# Altium integrated library TI Audio CODEC.IntLib: 199 symbols (part 5 of 17)
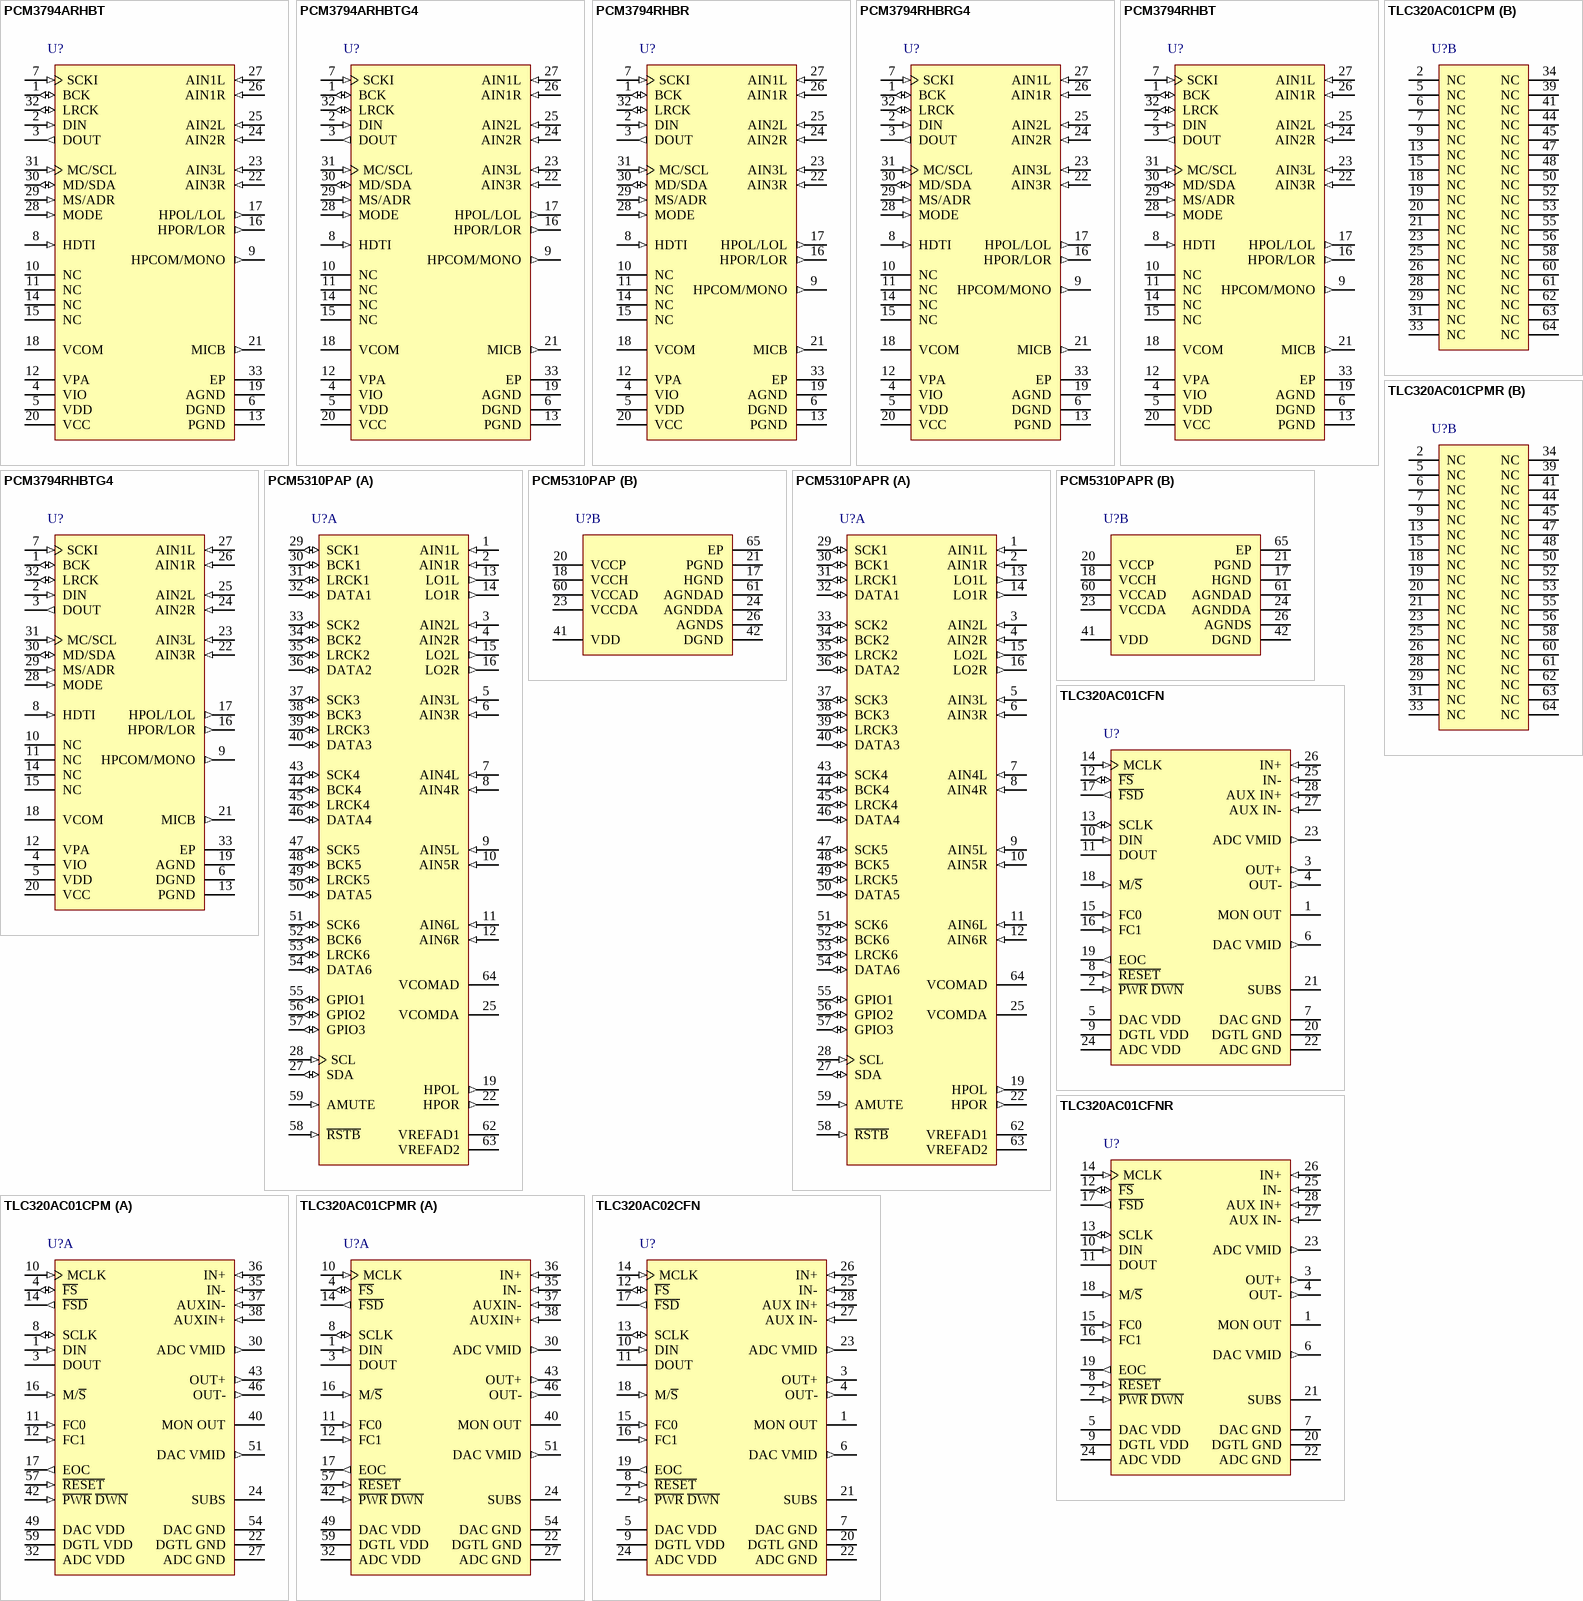
[diagram p17: symbols PCM3794ARHBT to TLC320AC02CFN]

## TLC320AC01CPM
designator U?
Single Channel CODEC-Bandwidth Independent of Sampling Rate, 0 to 70 degC, 64-pin LQFP (PM); Manufacturer: Texas Instruments; PartNumber: TLC320AC01CPM; Line Powered: TRUE; Sampling Rate (Max) (kHz): 25; DatasheetVersion: SLAS057D; PackageVersion: Dec-1996; PackageReference: PM64; PackageDescription: 64-Pin Thin Quad Flat Pack 0.5 mm Pitch; Supplier 1: Newark; Supplier Part Number 1: 76C7262; Supplier 2: Mouser; Supplier Part Number 2: 595-TLC320AC01CPM; Mounting Technology: Surface Mount; Code_JEDEC: MS-026; ComponentLink1Description: Datasheet; ComponentLink1URL: http://www.ti.com/general/docs/lit/getliterature.tsp?genericPartNumber=TLC320AC01&fileType=pdf
footprint PM64_N (Thin QFP, 64-Leads, Body 10x10mm, Pitch 0.5mm, IPC Medium Density)
footprint PM64_L (Thin QFP, 64-Leads, Body 10x10mm, Pitch 0.5mm, IPC High Density)
footprint PM64_M (Thin QFP, 64-Leads, Body 10x10mm, Pitch 0.5mm, IPC Low Density)
part A pins: 1 DIN (in) "Data input. DIN receives the DAC input data and command information and is synchronized with SCLK.", 3 DOUT (hiz) "Data output. DOUT outputs the ADC data results and register read contents. DOUT is synchronized with SCLK.", 4 ~{FS} (io) "Frame synchronization. When F\S\ goes low, DIN begins receiving data bits and DOUT begins transmitting data bits. In master mode, F\S\ is low during the simultaneous 16-bit transmission to DIN and from DOUT. In slave mode, (See Datasheet)", 8 SCLK (io) "Shift clock. SCLK clocks the digital data into DIN and out of DOUT during the frame-synchronization interval. When configured as an output (M/S high), SCLK is generated internally by dividing the master clock signal (See Datasheet)", 10 MCLK (in) "The master-clock input drives all the key logic signals of the AIC.", 11 FC0 (in) "Hardware control input. FC0 is used in conjunction with FC1 to request secondary communication and phase adjustments. FC0 should be tied low if it is not used.", 12 FC1 (in) "Hardware control input. FC1 is used in conjunction with FC0 to request secondary communication and phase adjustments. FC1 should be tied low if it is not used.", 14 ~{FSD} (out) "Frame-synchronization delayed output. This active-low output synchronizes a slave device to the frame synchronization timing of the master device. F\S\D\ is applied to the slave F\S\ input and is the same duration as the (See Datasheet)", 16 M/~{S} (in) "Master/slave select input. When M/S\ is high, the device is the master and when low, it is a slave.", 17 EOC (out) "End-of-conversion output. EOC goes high at the start of the ADC conversion period and low when conversion is complete. EOC remains low until the next ADC conversion period begins and indicates the internal device conversion (See Datasheet)", 22 DGTL GND (power) "Digital ground for control logic", 24 SUBS (power) "Substrate connection. SUBS should be tied to ADC GND.", 27 ADC GND (power) "Analog ground for the ADC channel", 30 ADC VMID (out) "Midsupply for the ADC channel (requires a bypass capacitor). ADC VMID must be buffered when used as an external reference.", 32 ADC VDD (power) "Analog supply voltage for the ADC channel", 35 IN- (in) "Inverting input to analog input amplifier", 36 IN+ (in) "Noninverting input to analog input amplifier", 37 AUXIN- (in) "Inverting input to auxiliary analog input amplifier", 38 AUXIN+ (in) "Noninverting input to auxiliary analog input amplifier", 40 MON OUT (hiz) "The monitor output allows monitoring of analog input and is a high-impedance output.", 42 ~{PWR} ~{DWN} (in) "Power-down input. When P\W\R\ D\W\N\ is taken low, the device is powered down such that the existing internally programmed state is maintained. When P\W\R\ D\W\N\ is brought high, full operation resumes.", 43 OUT+ (out) "Noninverting output of analog output power amplifier. OUT+ can drive transformer hybrids or high-impedance loads directly in a differential connection or a single-ended configuration with a buffered VMID.", 46 OUT- (out) "Inverting output of analog output power amplifier. OUT- is functionally identical with and complementary to OUT+.", 49 DAC VDD (power) "Analog supply voltage for the DAC channel", 51 DAC VMID (out) "Midsupply for the DAC channel (requires a bypass capacitor). DAC VMID must be buffered when used as an external reference.", 54 DAC GND (power) "Analog ground for the DAC channel", 57 ~{RESET} (in) "Reset input that initializes the internal counters and control registers. R\E\S\E\T\ initiates the serial data communications, initializes all of the registers to their default values, and puts the device in a preprogrammed (See Datasheet)", 59 DGTL VDD (power) "Digital supply voltage for control logic"
part B pins: 2 NC "No internal connection", 5 NC "No internal connection", 6 NC "No internal connection", 7 NC "No internal connection", 9 NC "No internal connection", 13 NC "No internal connection", 15 NC "No internal connection", 18 NC "No internal connection", 19 NC "No internal connection", 20 NC "No internal connection", 21 NC "No internal connection", 23 NC "No internal connection", 25 NC "No internal connection", 26 NC "No internal connection", 28 NC "No internal connection", 29 NC "No internal connection", 31 NC "No internal connection", 33 NC "No internal connection", 34 NC "No internal connection", 39 NC "No internal connection", 41 NC "No internal connection", 44 NC "No internal connection", 45 NC "No internal connection", 47 NC "No internal connection", 48 NC "No internal connection", 50 NC "No internal connection", 52 NC "No internal connection", 53 NC "No internal connection", 55 NC "No internal connection", 56 NC "No internal connection", 58 NC "No internal connection", 60 NC "No internal connection", 61 NC "No internal connection", 62 NC "No internal connection", 63 NC "No internal connection", 64 NC "No internal connection"

## TLC320AC01CPMR
designator U?
Single Channel CODEC-Bandwidth Independent of Sampling Rate, 0 to 70 degC, 64-pin LQFP (PM); Manufacturer: Texas Instruments; PartNumber: TLC320AC01CPMR; Line Powered: TRUE; Sampling Rate (Max) (kHz): 25; DatasheetVersion: SLAS057D; PackageVersion: Dec-1996; PackageReference: PM64; PackageDescription: 64-Pin Thin Quad Flat Pack 0.5 mm Pitch; Supplier 1: Digi-Key; Supplier Part Number 1: 296-1982-1-ND; Supplier 2: Digi-Key; Supplier Part Number 2: 296-1982-6-ND; Supplier 3: Newark; Supplier Part Number 3: 76C7263; Supplier 4: Mouser; Supplier Part Number 4: 595-TLC320AC01CPMR; Mounting Technology: Surface Mount; Code_JEDEC: MS-026; ComponentLink1Description: Datasheet; ComponentLink1URL: http://www.ti.com/general/docs/lit/getliterature.tsp?genericPartNumber=TLC320AC01&fileType=pdf
footprint PM64_N (Thin QFP, 64-Leads, Body 10x10mm, Pitch 0.5mm, IPC Medium Density)
footprint PM64_L (Thin QFP, 64-Leads, Body 10x10mm, Pitch 0.5mm, IPC High Density)
footprint PM64_M (Thin QFP, 64-Leads, Body 10x10mm, Pitch 0.5mm, IPC Low Density)
part A pins: 1 DIN (in) "Data input. DIN receives the DAC input data and command information and is synchronized with SCLK.", 3 DOUT (hiz) "Data output. DOUT outputs the ADC data results and register read contents. DOUT is synchronized with SCLK.", 4 ~{FS} (io) "Frame synchronization. When F\S\ goes low, DIN begins receiving data bits and DOUT begins transmitting data bits. In master mode, F\S\ is low during the simultaneous 16-bit transmission to DIN and from DOUT. In slave mode, (See Datasheet)", 8 SCLK (io) "Shift clock. SCLK clocks the digital data into DIN and out of DOUT during the frame-synchronization interval. When configured as an output (M/S high), SCLK is generated internally by dividing the master clock signal (See Datasheet)", 10 MCLK (in) "The master-clock input drives all the key logic signals of the AIC.", 11 FC0 (in) "Hardware control input. FC0 is used in conjunction with FC1 to request secondary communication and phase adjustments. FC0 should be tied low if it is not used.", 12 FC1 (in) "Hardware control input. FC1 is used in conjunction with FC0 to request secondary communication and phase adjustments. FC1 should be tied low if it is not used.", 14 ~{FSD} (out) "Frame-synchronization delayed output. This active-low output synchronizes a slave device to the frame synchronization timing of the master device. F\S\D\ is applied to the slave F\S\ input and is the same duration as the (See Datasheet)", 16 M/~{S} (in) "Master/slave select input. When M/S\ is high, the device is the master and when low, it is a slave.", 17 EOC (out) "End-of-conversion output. EOC goes high at the start of the ADC conversion period and low when conversion is complete. EOC remains low until the next ADC conversion period begins and indicates the internal device conversion (See Datasheet)", 22 DGTL GND (power) "Digital ground for control logic", 24 SUBS (power) "Substrate connection. SUBS should be tied to ADC GND.", 27 ADC GND (power) "Analog ground for the ADC channel", 30 ADC VMID (out) "Midsupply for the ADC channel (requires a bypass capacitor). ADC VMID must be buffered when used as an external reference.", 32 ADC VDD (power) "Analog supply voltage for the ADC channel", 35 IN- (in) "Inverting input to analog input amplifier", 36 IN+ (in) "Noninverting input to analog input amplifier", 37 AUXIN- (in) "Inverting input to auxiliary analog input amplifier", 38 AUXIN+ (in) "Noninverting input to auxiliary analog input amplifier", 40 MON OUT (hiz) "The monitor output allows monitoring of analog input and is a high-impedance output.", 42 ~{PWR} ~{DWN} (in) "Power-down input. When P\W\R\ D\W\N\ is taken low, the device is powered down such that the existing internally programmed state is maintained. When P\W\R\ D\W\N\ is brought high, full operation resumes.", 43 OUT+ (out) "Noninverting output of analog output power amplifier. OUT+ can drive transformer hybrids or high-impedance loads directly in a differential connection or a single-ended configuration with a buffered VMID.", 46 OUT- (out) "Inverting output of analog output power amplifier. OUT- is functionally identical with and complementary to OUT+.", 49 DAC VDD (power) "Analog supply voltage for the DAC channel", 51 DAC VMID (out) "Midsupply for the DAC channel (requires a bypass capacitor). DAC VMID must be buffered when used as an external reference.", 54 DAC GND (power) "Analog ground for the DAC channel", 57 ~{RESET} (in) "Reset input that initializes the internal counters and control registers. R\E\S\E\T\ initiates the serial data communications, initializes all of the registers to their default values, and puts the device in a preprogrammed (See Datasheet)", 59 DGTL VDD (power) "Digital supply voltage for control logic"
part B pins: 2 NC "No internal connection", 5 NC "No internal connection", 6 NC "No internal connection", 7 NC "No internal connection", 9 NC "No internal connection", 13 NC "No internal connection", 15 NC "No internal connection", 18 NC "No internal connection", 19 NC "No internal connection", 20 NC "No internal connection", 21 NC "No internal connection", 23 NC "No internal connection", 25 NC "No internal connection", 26 NC "No internal connection", 28 NC "No internal connection", 29 NC "No internal connection", 31 NC "No internal connection", 33 NC "No internal connection", 34 NC "No internal connection", 39 NC "No internal connection", 41 NC "No internal connection", 44 NC "No internal connection", 45 NC "No internal connection", 47 NC "No internal connection", 48 NC "No internal connection", 50 NC "No internal connection", 52 NC "No internal connection", 53 NC "No internal connection", 55 NC "No internal connection", 56 NC "No internal connection", 58 NC "No internal connection", 60 NC "No internal connection", 61 NC "No internal connection", 62 NC "No internal connection", 63 NC "No internal connection", 64 NC "No internal connection"

## TLC320AC02CFN
designator U?
Single Channel CODEC-Bandwidth Independent of Sampling Rate, 0 to 70 degC, 28-pin PLCC (FN), Green (RoHS & no Sb/Br); Manufacturer: Texas Instruments; PartNumber: TLC320AC02CFN; Line Powered: TRUE; Sampling Rate (Max) (kHz): 25; DatasheetVersion: SLAS084C; PackageVersion: revB, Mar-1995; PackageReference: FN28; PackageDescription: 28-Pin Plastic J-Leaded Chip Carrier, 1.27 mm Pitch; Supplier 1: Digi-Key; Supplier Part Number 1: 296-10269-5-ND; Supplier 2: Newark; Supplier Part Number 2: 76C7264; Supplier 3: Mouser; Supplier Part Number 3: 595-TLC320AC02CFN; Mounting Technology: Surface Mount; Code_JEDEC: MS-018; ComponentLink1Description: Datasheet; ComponentLink1URL: http://www.ti.com/general/docs/lit/getliterature.tsp?genericPartNumber=TLC320AC02&fileType=pdf
footprint FN28_N (Leaded Chip Carrier, 28-Leads, Body 11.5x11.5mm, Pitch 1.27mm, IPC Medium Density)
footprint FN28_L (Leaded Chip Carrier, 28-Leads, Body 11.5x11.5mm, Pitch 1.27mm, IPC High Density)
footprint FN28_M (Leaded Chip Carrier, 28-Leads, Body 11.5x11.5mm, Pitch 1.27mm, IPC Low Density)
pins: 1 MON OUT (hiz) "The monitor output allows monitoring of analog input and is a high-impedance output.", 2 ~{PWR} ~{DWN} (in) "Power-down input. When P\W\R\ D\W\N\ is taken low, the device is powered down such that the existing internally programmed state is maintained. When P\W\R\ D\W\N\ is brought high, full operation resumes.", 3 OUT+ (out) "Noninverting output of analog output power amplifier. OUT+ can drive transformer hybrids or high-impedance loads directly in a differential connection or a single-ended configuration with a buffered VMID.", 4 OUT- (out) "Inverting output of analog output power amplifier. OUT- is functionally identical with and complementary to OUT+.", 5 DAC VDD (power) "Digital supply voltage for the DAC channel", 6 DAC VMID (out) "Midsupply for the DAC channel (requires a bypass capacitor). DAC VMID must be buffered when used as an external reference.", 7 DAC GND (power) "Analog ground for the DAC channel", 8 ~{RESET} (in) "Reset input that initializes the internal counters and control registers. R\E\S\E\T\ initiates the serial data communications, initializes all of the registers to their default values, and puts the device in a preprogrammed (See Datasheet)", 9 DGTL VDD (power) "Digital supply voltage for control logic", 10 DIN (in) "Data input. DIN receives the DAC input data and command information and is synchronized with SCLK.", 11 DOUT (hiz) "Data output. DOUT outputs the ADC data results and register read contents.DOUT is synchronized with SCLK.", 12 ~{FS} (io) "Frame synchronization. When F\S\ goes low, DIN begins receiving data bits and DOUT begins transmitting data bits. In master mode, F\S\ is low during the simultaneous 16-bit transmission to DIN and from DOUT. In slave mode, (See Datasheet)", 13 SCLK (io) "Shift clock. SCLK clocks the digital data into DIN and out of DOUT during the frame-synchronization interval. When configured as an output (M/S\ high), SCLK is generated internally by dividing the master clock signal (See Datasheet)", 14 MCLK (in) "The master-clock input drives all the key logic signals of the AIC.", 15 FC0 (in) "Hardware control input. FC0 is used in conjunction with FC1 to request secondary communication and phase adjustments. FC0 should be tied low if it is not used.", 16 FC1 (in) "Hardware control input. FC1 is used in conjunction with FC1 to request secondary communication and phase adjustments. FC1 should be tied low if it is not used.", 17 ~{FSD} (out) "Frame-synchronization delayed output. This active-low output synchronizes a slave device to the frame synchronization timing of the master device. F\S\D\ is applied to the slave F\S\ input and is the same duration as the (See Datasheet)", 18 M/~{S} (in) "Master/slave select input. When M/S\ is high, the device is the master and when low ,it is a slave.", 19 EOC (out) "End-of-conversion output. EOC goes high at the start of the ADC conversion period and low when conversion is complete. EOC remains low until the next ADC conversion period begins and indicates the internal device conversion (See Datasheet)", 20 DGTL GND (power) "Digital ground for control logic", 21 SUBS "Substrate connection. SUBS should be tied to ADC GND.", 22 ADC GND (power) "Analog ground for the ADC channel", 23 ADC VMID (out) "Midsupply for the ADC channel (requires a bypass capacitor). ADC VMID must be buffered when used as an external reference.", 24 ADC VDD (power) "Analog supply voltage for the ADC channel", 25 IN- (in) "Inverting input to analog input amplifier", 26 IN+ (in) "Noninverting input to analog input amplifier", 27 AUX IN- (in) "Inverting input to auxiliary analog input amplifier", 28 AUX IN+ (in) "Noninverting input to auxiliary analog input amplifier"

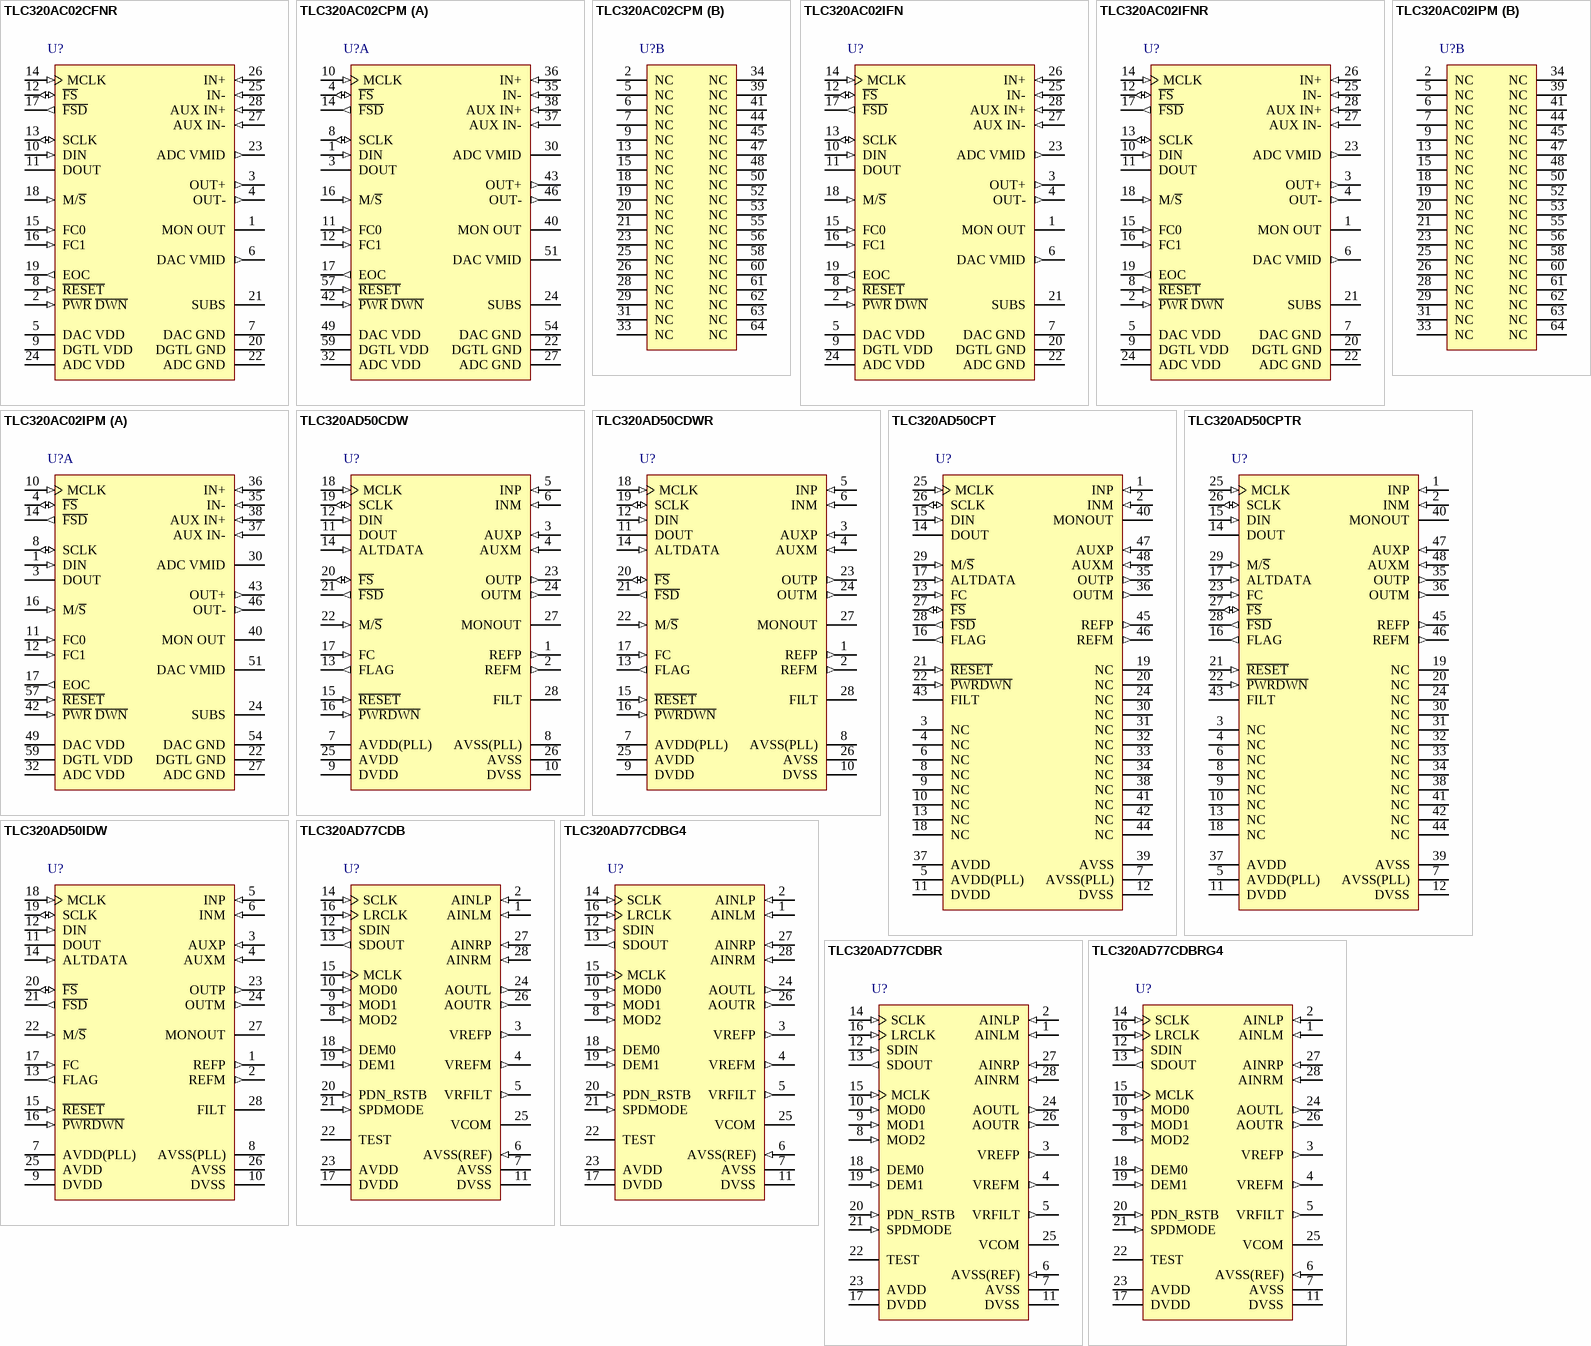
[diagram p4: symbols TLC320AC02CFNR to TLC320AD77CDBRG4]

## TLC320AC02CFNR
designator U?
Single Channel CODEC-Bandwidth Independent of Sampling Rate, 0 to 70 degC, 28-pin PLCC (FN), Green (RoHS & no Sb/Br); Manufacturer: Texas Instruments; PartNumber: TLC320AC02CFNR; Line Powered: TRUE; Sampling Rate (Max) (kHz): 25; DatasheetVersion: SLAS084C; PackageVersion: revB, Mar-1995; PackageReference: FN28; PackageDescription: 28-Pin Plastic J-Leaded Chip Carrier, 1.27 mm Pitch; Supplier 1: Digi-Key; Supplier Part Number 1: TLC320AC02CFNR-ND; Supplier 2: Newark; Supplier Part Number 2: 76C7265; Supplier 3: Mouser; Supplier Part Number 3: 595-TLC320AC02CFNR; Mounting Technology: Surface Mount; Code_JEDEC: MS-018; ComponentLink1Description: Datasheet; ComponentLink1URL: http://www.ti.com/general/docs/lit/getliterature.tsp?genericPartNumber=TLC320AC02&fileType=pdf
footprint FN28_N (Leaded Chip Carrier, 28-Leads, Body 11.5x11.5mm, Pitch 1.27mm, IPC Medium Density)
footprint FN28_L (Leaded Chip Carrier, 28-Leads, Body 11.5x11.5mm, Pitch 1.27mm, IPC High Density)
footprint FN28_M (Leaded Chip Carrier, 28-Leads, Body 11.5x11.5mm, Pitch 1.27mm, IPC Low Density)
pins: 1 MON OUT (hiz) "The monitor output allows monitoring of analog input and is a high-impedance output.", 2 ~{PWR} ~{DWN} (in) "Power-down input. When P\W\R\ D\W\N\ is taken low, the device is powered down such that the existing internally programmed state is maintained. When P\W\R\ D\W\N\ is brought high, full operation resumes.", 3 OUT+ (out) "Noninverting output of analog output power amplifier. OUT+ can drive transformer hybrids or high-impedance loads directly in a differential connection or a single-ended configuration with a buffered VMID.", 4 OUT- (out) "Inverting output of analog output power amplifier. OUT- is functionally identical with and complementary to OUT+.", 5 DAC VDD (power) "Digital supply voltage for the DAC channel", 6 DAC VMID (out) "Midsupply for the DAC channel (requires a bypass capacitor). DAC VMID must be buffered when used as an external reference.", 7 DAC GND (power) "Analog ground for the DAC channel", 8 ~{RESET} (in) "Reset input that initializes the internal counters and control registers. R\E\S\E\T\ initiates the serial data communications, initializes all of the registers to their default values, and puts the device in a preprogrammed (See Datasheet)", 9 DGTL VDD (power) "Digital supply voltage for control logic", 10 DIN (in) "Data input. DIN receives the DAC input data and command information and is synchronized with SCLK.", 11 DOUT (hiz) "Data output. DOUT outputs the ADC data results and register read contents.DOUT is synchronized with SCLK.", 12 ~{FS} (io) "Frame synchronization. When F\S\ goes low, DIN begins receiving data bits and DOUT begins transmitting data bits. In master mode, F\S\ is low during the simultaneous 16-bit transmission to DIN and from DOUT. In slave mode, (See Datasheet)", 13 SCLK (io) "Shift clock. SCLK clocks the digital data into DIN and out of DOUT during the frame-synchronization interval. When configured as an output (M/S\ high), SCLK is generated internally by dividing the master clock signal (See Datasheet)", 14 MCLK (in) "The master-clock input drives all the key logic signals of the AIC.", 15 FC0 (in) "Hardware control input. FC0 is used in conjunction with FC1 to request secondary communication and phase adjustments. FC0 should be tied low if it is not used.", 16 FC1 (in) "Hardware control input. FC1 is used in conjunction with FC1 to request secondary communication and phase adjustments. FC1 should be tied low if it is not used.", 17 ~{FSD} (out) "Frame-synchronization delayed output. This active-low output synchronizes a slave device to the frame synchronization timing of the master device. F\S\D\ is applied to the slave F\S\ input and is the same duration as the (See Datasheet)", 18 M/~{S} (in) "Master/slave select input. When M/S\ is high, the device is the master and when low ,it is a slave.", 19 EOC (out) "End-of-conversion output. EOC goes high at the start of the ADC conversion period and low when conversion is complete. EOC remains low until the next ADC conversion period begins and indicates the internal device conversion (See Datasheet)", 20 DGTL GND (power) "Digital ground for control logic", 21 SUBS "Substrate connection. SUBS should be tied to ADC GND.", 22 ADC GND (power) "Analog ground for the ADC channel", 23 ADC VMID (out) "Midsupply for the ADC channel (requires a bypass capacitor). ADC VMID must be buffered when used as an external reference.", 24 ADC VDD (power) "Analog supply voltage for the ADC channel", 25 IN- (in) "Inverting input to analog input amplifier", 26 IN+ (in) "Noninverting input to analog input amplifier", 27 AUX IN- (in) "Inverting input to auxiliary analog input amplifier", 28 AUX IN+ (in) "Noninverting input to auxiliary analog input amplifier"

## TLC320AC02CPM
designator U?
Single Channel CODEC-Bandwidth Independent of Sampling Rate, 0 to 70 degC, 64-pin LQFP (PM); Manufacturer: Texas Instruments; PartNumber: TLC320AC02CPM; Line Powered: TRUE; Sampling Rate (Max) (kHz): 25; DatasheetVersion: SLAS084C; PackageVersion: Dec-1996; PackageReference: PM64; PackageDescription: 64-Pin Thin Quad Flat Pack 0.5 mm Pitch; Supplier 1: Newark; Supplier Part Number 1: 76C7266; Supplier 2: Mouser; Supplier Part Number 2: 595-TLC320AC02CPM; Mounting Technology: Surface Mount; Code_JEDEC: MS-026; ComponentLink1Description: Datasheet; ComponentLink1URL: http://www.ti.com/general/docs/lit/getliterature.tsp?genericPartNumber=TLC320AC02&fileType=pdf
footprint PM64_N (Thin QFP, 64-Leads, Body 10x10mm, Pitch 0.5mm, IPC Medium Density)
footprint PM64_L (Thin QFP, 64-Leads, Body 10x10mm, Pitch 0.5mm, IPC High Density)
footprint PM64_M (Thin QFP, 64-Leads, Body 10x10mm, Pitch 0.5mm, IPC Low Density)
part A pins: 1 DIN (in) "Data input. DIN receives the DAC input data and command information and is synchronized with SCLK.", 3 DOUT (hiz) "Data output. DOUT outputs the ADC data results and register read contents. DOUT is synchronized with SCLK.", 4 ~{FS} (io) "Frame synchronization. When F\S\ goes low, DIN begins receiving data bits and DOUT  begins transmitting data bits. In master mode, F\S\ is low during the simultaneous 16-bit transmission to DIN and from DOUT. In slave mode, (See Datasheet)", 8 SCLK (io) "Shift clock. SCLK clocks the digital data into DIN and out of DOUT during the frame-synchronization interval. When configured as an output (M/S\ high), SCLK is generated internally by dividing the master clock signal (See Datasheet)", 10 MCLK (in) "The master-clock input drives all the key logic signals of the AIC.", 11 FC0 (in) "Hardware control input. FC0 is used in conjunction with FC1 to request secondary communication and phase adjustments. FC0 should be tied low if it is not used.", 12 FC1 (in) "Hardware control input. FC1 is used in conjunction with FC0 to request secondary communication and phase adjustments. FC1 should be tied low if it is not used.", 14 ~{FSD} (out) "Frame-synchronization delayed output. This active-low output synchronizes a slave device to the frame synchronization timing of the master device. F\S\D\ is applied to the slave F\S\ input and is the same duration as the (See Datasheet)", 16 M/~{S} (in) "Master/slave select input. When M/S\ is high, the device is the master and when low, it is a slave.", 17 EOC (out) "End-of-conversion output. EOC goes high at the start of the ADC conversion period and low when conversion is complete. EOC remains low until the next ADC conversion period begins and indicates the internal device conversion (See Datasheet)", 22 DGTL GND (power) "Digital ground for control logic", 24 SUBS (power) "Substrate connection. SUBS should be tied to ADC GND.", 27 ADC GND (power) "Analog ground for the ADC channel", 30 ADC VMID "Midsupply for the ADC channel (requires a bypass capacitor). ADC VMID must be buffered when used as an external reference.", 32 ADC VDD (power) "Analog supply voltage for the ADC channel", 35 IN- (in) "Inverting input to analog input amplifier", 36 IN+ (in) "Noninverting input to analog input amplifier", 37 AUX IN- (in) "Inverting input to auxiliary analog input amplifier", 38 AUX IN+ (in) "Noninverting input to auxiliary analog input amplifier", 40 MON OUT (hiz) "The monitor output allows monitoring of analog input and is a high-impedance output.", 42 ~{PWR} ~{DWN} (in) "Power-down input. When P\W\R\ D\W\N\ is taken low, the device is powered down such that the existing internally programmed state is maintained. When P\W\R\ D\W\N\ is brought high, full operation resumes.", 43 OUT+ (out) "Noninverting output of analog output power amplifier. OUT+ can drive transformer hybrids or high-impedance loads directly in a differential connection or a single-ended configuration with a buffered VMID.", 46 OUT- (out) "Inverting output of analog output power amplifier. OUT- is functionally identical with and complementary to OUT+.", 49 DAC VDD (power) "Digital supply voltage for the DAC channel", 51 DAC VMID "Midsupply for the DAC channel (requires a bypass capacitor). DAC VMID must be buffered when used as an external reference.", 54 DAC GND (power) "Analog ground for the DAC channel", 57 ~{RESET} (in) "Reset input that initializes the internal counters and control registers. R\E\S\E\T\ initiates the serial data communications, initializes all of the registers to their default values, and puts the device in a preprogrammed (See Datasheet)", 59 DGTL VDD (power) "Digital supply voltage for control logic"
part B pins: 2 NC "No connection.", 5 NC "No connection.", 6 NC "No connection.", 7 NC "No connection.", 9 NC "No connection.", 13 NC "No connection.", 15 NC "No connection.", 18 NC "No connection.", 19 NC "No connection.", 20 NC "No connection.", 21 NC "No connection.", 23 NC "No connection.", 25 NC "No connection.", 26 NC "No connection.", 28 NC "No connection.", 29 NC "No connection.", 31 NC "No connection.", 33 NC "No connection.", 34 NC "No connection.", 39 NC "No connection.", 41 NC "No connection.", 44 NC "No connection.", 45 NC "No connection.", 47 NC "No connection.", 48 NC "No connection.", 50 NC "No connection.", 52 NC "No connection.", 53 NC "No connection.", 55 NC "No connection.", 56 NC "No connection.", 58 NC "No connection.", 60 NC "No connection.", 61 NC "No connection.", 62 NC "No connection.", 63 NC "No connection.", 64 NC "No connection."

## TLC320AC02IFN
designator U?
Single Channel CODEC-Bandwidth Independent of Sampling Rate, -40 to 85 degC, 28-pin PLCC (FN), Green (RoHS & no Sb/Br); Manufacturer: Texas Instruments; PartNumber: TLC320AC02IFN; Line Powered: TRUE; Sampling Rate (Max) (kHz): 25; DatasheetVersion: SLAS084C; PackageVersion: revB, Mar-1995; PackageReference: FN28; PackageDescription: 28-Pin Plastic J-Leaded Chip Carrier, 1.27 mm Pitch; Supplier 1: Digi-Key; Supplier Part Number 1: 296-10271-5-ND; Supplier 2: Newark; Supplier Part Number 2: 76C7267; Supplier 3: Mouser; Supplier Part Number 3: 595-TLC320AC02IFN; Mounting Technology: Surface Mount; Code_JEDEC: MS-018; ComponentLink1Description: Datasheet; ComponentLink1URL: http://www.ti.com/general/docs/lit/getliterature.tsp?genericPartNumber=TLC320AC02&fileType=pdf
footprint FN28_N (Leaded Chip Carrier, 28-Leads, Body 11.5x11.5mm, Pitch 1.27mm, IPC Medium Density)
footprint FN28_L (Leaded Chip Carrier, 28-Leads, Body 11.5x11.5mm, Pitch 1.27mm, IPC High Density)
footprint FN28_M (Leaded Chip Carrier, 28-Leads, Body 11.5x11.5mm, Pitch 1.27mm, IPC Low Density)
pins: 1 MON OUT (hiz) "The monitor output allows monitoring of analog input and is a high-impedance output.", 2 ~{PWR} ~{DWN} (in) "Power-down input. When P\W\R\ D\W\N\ is taken low, the device is powered down such that the existing internally programmed state is maintained. When P\W\R\ D\W\N\ is brought high, full operation resumes.", 3 OUT+ (out) "Noninverting output of analog output power amplifier. OUT+ can drive transformer hybrids or high-impedance loads directly in a differential connection or a single-ended configuration with a buffered VMID.", 4 OUT- (out) "Inverting output of analog output power amplifier. OUT- is functionally identical with and complementary to OUT+.", 5 DAC VDD (power) "Digital supply voltage for the DAC channel", 6 DAC VMID (out) "Midsupply for the DAC channel (requires a bypass capacitor). DAC VMID must be buffered when used as an external reference.", 7 DAC GND (power) "Analog ground for the DAC channel", 8 ~{RESET} (in) "Reset input that initializes the internal counters and control registers. R\E\S\E\T\ initiates the serial data communications, initializes all of the registers to their default values, and puts the device in a preprogrammed (See Datasheet)", 9 DGTL VDD (power) "Digital supply voltage for control logic", 10 DIN (in) "Data input. DIN receives the DAC input data and command information and is synchronized with SCLK.", 11 DOUT (hiz) "Data output. DOUT outputs the ADC data results and register read contents.DOUT is synchronized with SCLK.", 12 ~{FS} (io) "Frame synchronization. When F\S\ goes low, DIN begins receiving data bits and DOUT begins transmitting data bits. In master mode, F\S\ is low during the simultaneous 16-bit transmission to DIN and from DOUT. In slave mode, (See Datasheet)", 13 SCLK (io) "Shift clock. SCLK clocks the digital data into DIN and out of DOUT during the frame-synchronization interval. When configured as an output (M/S\ high), SCLK is generated internally by dividing the master clock signal (See Datasheet)", 14 MCLK (in) "The master-clock input drives all the key logic signals of the AIC.", 15 FC0 (in) "Hardware control input. FC0 is used in conjunction with FC1 to request secondary communication and phase adjustments. FC0 should be tied low if it is not used.", 16 FC1 (in) "Hardware control input. FC1 is used in conjunction with FC1 to request secondary communication and phase adjustments. FC1 should be tied low if it is not used.", 17 ~{FSD} (out) "Frame-synchronization delayed output. This active-low output synchronizes a slave device to the frame synchronization timing of the master device. F\S\D\ is applied to the slave F\S\ input and is the same duration as the (See Datasheet)", 18 M/~{S} (in) "Master/slave select input. When M/S\ is high, the device is the master and when low ,it is a slave.", 19 EOC (out) "End-of-conversion output. EOC goes high at the start of the ADC conversion period and low when conversion is complete. EOC remains low until the next ADC conversion period begins and indicates the internal device conversion (See Datasheet)", 20 DGTL GND (power) "Digital ground for control logic", 21 SUBS "Substrate connection. SUBS should be tied to ADC GND.", 22 ADC GND (power) "Analog ground for the ADC channel", 23 ADC VMID (out) "Midsupply for the ADC channel (requires a bypass capacitor). ADC VMID must be buffered when used as an external reference.", 24 ADC VDD (power) "Analog supply voltage for the ADC channel", 25 IN- (in) "Inverting input to analog input amplifier", 26 IN+ (in) "Noninverting input to analog input amplifier", 27 AUX IN- (in) "Inverting input to auxiliary analog input amplifier", 28 AUX IN+ (in) "Noninverting input to auxiliary analog input amplifier"

## TLC320AC02IFNR
designator U?
Single Channel CODEC-Bandwidth Independent of Sampling Rate, -40 to 85 degC, 28-pin PLCC (FN), Green (RoHS & no Sb/Br); Manufacturer: Texas Instruments; PartNumber: TLC320AC02IFNR; Line Powered: TRUE; Sampling Rate (Max) (kHz): 25; DatasheetVersion: SLAS084C; PackageVersion: revB, Mar-1995; PackageReference: FN28; PackageDescription: 28-Pin Plastic J-Leaded Chip Carrier, 1.27 mm Pitch; Supplier 1: Digi-Key; Supplier Part Number 1: TLC320AC02IFNR-ND; Supplier 2: Newark; Supplier Part Number 2: 76C7268; Supplier 3: Mouser; Supplier Part Number 3: 595-TLC320AC02IFNR; Mounting Technology: Surface Mount; Code_JEDEC: MS-018; ComponentLink1Description: Datasheet; ComponentLink1URL: http://www.ti.com/general/docs/lit/getliterature.tsp?genericPartNumber=TLC320AC02&fileType=pdf
footprint FN28_N (Leaded Chip Carrier, 28-Leads, Body 11.5x11.5mm, Pitch 1.27mm, IPC Medium Density)
footprint FN28_L (Leaded Chip Carrier, 28-Leads, Body 11.5x11.5mm, Pitch 1.27mm, IPC High Density)
footprint FN28_M (Leaded Chip Carrier, 28-Leads, Body 11.5x11.5mm, Pitch 1.27mm, IPC Low Density)
pins: 1 MON OUT (hiz) "The monitor output allows monitoring of analog input and is a high-impedance output.", 2 ~{PWR} ~{DWN} (in) "Power-down input. When P\W\R\ D\W\N\ is taken low, the device is powered down such that the existing internally programmed state is maintained. When P\W\R\ D\W\N\ is brought high, full operation resumes.", 3 OUT+ (out) "Noninverting output of analog output power amplifier. OUT+ can drive transformer hybrids or high-impedance loads directly in a differential connection or a single-ended configuration with a buffered VMID.", 4 OUT- (out) "Inverting output of analog output power amplifier. OUT- is functionally identical with and complementary to OUT+.", 5 DAC VDD (power) "Digital supply voltage for the DAC channel", 6 DAC VMID (out) "Midsupply for the DAC channel (requires a bypass capacitor). DAC VMID must be buffered when used as an external reference.", 7 DAC GND (power) "Analog ground for the DAC channel", 8 ~{RESET} (in) "Reset input that initializes the internal counters and control registers. R\E\S\E\T\ initiates the serial data communications, initializes all of the registers to their default values, and puts the device in a preprogrammed (See Datasheet)", 9 DGTL VDD (power) "Digital supply voltage for control logic", 10 DIN (in) "Data input. DIN receives the DAC input data and command information and is synchronized with SCLK.", 11 DOUT (hiz) "Data output. DOUT outputs the ADC data results and register read contents.DOUT is synchronized with SCLK.", 12 ~{FS} (io) "Frame synchronization. When F\S\ goes low, DIN begins receiving data bits and DOUT begins transmitting data bits. In master mode, F\S\ is low during the simultaneous 16-bit transmission to DIN and from DOUT. In slave mode, (See Datasheet)", 13 SCLK (io) "Shift clock. SCLK clocks the digital data into DIN and out of DOUT during the frame-synchronization interval. When configured as an output (M/S\ high), SCLK is generated internally by dividing the master clock signal (See Datasheet)", 14 MCLK (in) "The master-clock input drives all the key logic signals of the AIC.", 15 FC0 (in) "Hardware control input. FC0 is used in conjunction with FC1 to request secondary communication and phase adjustments. FC0 should be tied low if it is not used.", 16 FC1 (in) "Hardware control input. FC1 is used in conjunction with FC1 to request secondary communication and phase adjustments. FC1 should be tied low if it is not used.", 17 ~{FSD} (out) "Frame-synchronization delayed output. This active-low output synchronizes a slave device to the frame synchronization timing of the master device. F\S\D\ is applied to the slave F\S\ input and is the same duration as the (See Datasheet)", 18 M/~{S} (in) "Master/slave select input. When M/S\ is high, the device is the master and when low ,it is a slave.", 19 EOC (out) "End-of-conversion output. EOC goes high at the start of the ADC conversion period and low when conversion is complete. EOC remains low until the next ADC conversion period begins and indicates the internal device conversion (See Datasheet)", 20 DGTL GND (power) "Digital ground for control logic", 21 SUBS "Substrate connection. SUBS should be tied to ADC GND.", 22 ADC GND (power) "Analog ground for the ADC channel", 23 ADC VMID (out) "Midsupply for the ADC channel (requires a bypass capacitor). ADC VMID must be buffered when used as an external reference.", 24 ADC VDD (power) "Analog supply voltage for the ADC channel", 25 IN- (in) "Inverting input to analog input amplifier", 26 IN+ (in) "Noninverting input to analog input amplifier", 27 AUX IN- (in) "Inverting input to auxiliary analog input amplifier", 28 AUX IN+ (in) "Noninverting input to auxiliary analog input amplifier"

## TLC320AC02IPM
designator U?
Single Channel CODEC-Bandwidth Independent of Sampling Rate, -40 to 85 degC, 28-pin PLCC (FN), Green (RoHS & no Sb/Br); Manufacturer: Texas Instruments; PartNumber: TLC320AC02IPM; Line Powered: TRUE; Sampling Rate (Max) (kHz): 25; DatasheetVersion: SLAS084C; PackageVersion: Dec-1996; PackageReference: PM64; PackageDescription: 64-Pin Thin Quad Flat Pack 0.5 mm Pitch; Supplier 1: Newark; Supplier Part Number 1: 76C7269; Supplier 2: Mouser; Supplier Part Number 2: 595-TLC320AC02IPM; Mounting Technology: Surface Mount; Code_JEDEC: MS-026; ComponentLink1Description: Datasheet; ComponentLink1URL: http://www.ti.com/general/docs/lit/getliterature.tsp?genericPartNumber=TLC320AC02&fileType=pdf
footprint PM64_N (Thin QFP, 64-Leads, Body 10x10mm, Pitch 0.5mm, IPC Medium Density)
footprint PM64_L (Thin QFP, 64-Leads, Body 10x10mm, Pitch 0.5mm, IPC High Density)
footprint PM64_M (Thin QFP, 64-Leads, Body 10x10mm, Pitch 0.5mm, IPC Low Density)
part A pins: 1 DIN (in) "Data input. DIN receives the DAC input data and command information and is synchronized with SCLK.", 3 DOUT (hiz) "Data output. DOUT outputs the ADC data results and register read contents. DOUT is synchronized with SCLK.", 4 ~{FS} (io) "Frame synchronization. When F\S\ goes low, DIN begins receiving data bits and DOUT  begins transmitting data bits. In master mode, F\S\ is low during the simultaneous 16-bit transmission to DIN and from DOUT. In slave mode, (See Datasheet)", 8 SCLK (io) "Shift clock. SCLK clocks the digital data into DIN and out of DOUT during the frame-synchronization interval. When configured as an output (M/S\ high), SCLK is generated internally by dividing the master clock signal (See Datasheet)", 10 MCLK (in) "The master-clock input drives all the key logic signals of the AIC.", 11 FC0 (in) "Hardware control input. FC0 is used in conjunction with FC1 to request secondary communication and phase adjustments. FC0 should be tied low if it is not used.", 12 FC1 (in) "Hardware control input. FC1 is used in conjunction with FC0 to request secondary communication and phase adjustments. FC1 should be tied low if it is not used.", 14 ~{FSD} (out) "Frame-synchronization delayed output. This active-low output synchronizes a slave device to the frame synchronization timing of the master device. F\S\D\ is applied to the slave F\S\ input and is the same duration as the (See Datasheet)", 16 M/~{S} (in) "Master/slave select input. When M/S\ is high, the device is the master and when low, it is a slave.", 17 EOC (out) "End-of-conversion output. EOC goes high at the start of the ADC conversion period and low when conversion is complete. EOC remains low until the next ADC conversion period begins and indicates the internal device conversion (See Datasheet)", 22 DGTL GND (power) "Digital ground for control logic", 24 SUBS (power) "Substrate connection. SUBS should be tied to ADC GND.", 27 ADC GND (power) "Analog ground for the ADC channel", 30 ADC VMID "Midsupply for the ADC channel (requires a bypass capacitor). ADC VMID must be buffered when used as an external reference.", 32 ADC VDD (power) "Analog supply voltage for the ADC channel", 35 IN- (in) "Inverting input to analog input amplifier", 36 IN+ (in) "Noninverting input to analog input amplifier", 37 AUX IN- (in) "Inverting input to auxiliary analog input amplifier", 38 AUX IN+ (in) "Noninverting input to auxiliary analog input amplifier", 40 MON OUT (hiz) "The monitor output allows monitoring of analog input and is a high-impedance output.", 42 ~{PWR} ~{DWN} (in) "Power-down input. When P\W\R\ D\W\N\ is taken low, the device is powered down such that the existing internally programmed state is maintained. When P\W\R\ D\W\N\ is brought high, full operation resumes.", 43 OUT+ (out) "Noninverting output of analog output power amplifier. OUT+ can drive transformer hybrids or high-impedance loads directly in a differential connection or a single-ended configuration with a buffered VMID.", 46 OUT- (out) "Inverting output of analog output power amplifier. OUT- is functionally identical with and complementary to OUT+.", 49 DAC VDD (power) "Digital supply voltage for the DAC channel", 51 DAC VMID "Midsupply for the DAC channel (requires a bypass capacitor). DAC VMID must be buffered when used as an external reference.", 54 DAC GND (power) "Analog ground for the DAC channel", 57 ~{RESET} (in) "Reset input that initializes the internal counters and control registers. R\E\S\E\T\ initiates the serial data communications, initializes all of the registers to their default values, and puts the device in a preprogrammed (See Datasheet)", 59 DGTL VDD (power) "Digital supply voltage for control logic"
part B pins: 2 NC "No connection.", 5 NC "No connection.", 6 NC "No connection.", 7 NC "No connection.", 9 NC "No connection.", 13 NC "No connection.", 15 NC "No connection.", 18 NC "No connection.", 19 NC "No connection.", 20 NC "No connection.", 21 NC "No connection.", 23 NC "No connection.", 25 NC "No connection.", 26 NC "No connection.", 28 NC "No connection.", 29 NC "No connection.", 31 NC "No connection.", 33 NC "No connection.", 34 NC "No connection.", 39 NC "No connection.", 41 NC "No connection.", 44 NC "No connection.", 45 NC "No connection.", 47 NC "No connection.", 48 NC "No connection.", 50 NC "No connection.", 52 NC "No connection.", 53 NC "No connection.", 55 NC "No connection.", 56 NC "No connection.", 58 NC "No connection.", 60 NC "No connection.", 61 NC "No connection.", 62 NC "No connection.", 63 NC "No connection.", 64 NC "No connection."

## TLC320AD50CDW
designator U?
Single Channel CODEC with Master-Slave Function (3 Slaves), 89 dB DAC SNR, 28-pin SOIC (DW), Green (RoHS & no Sb/Br); Manufacturer: Texas Instruments; PartNumber: TLC320AD50CDW; Line Powered: TRUE; Sampling Rate (Max) (kHz): 22.05; DatasheetVersion: SLAS131E; PackageVersion: revG, Jan-2011; PackageReference: DW28; PackageDescription: 28-Pin Plastic Small Outline Integrated Circuit, 17.9 x 7.5 mm, Pitch 1.27 mm Pitch; Supplier 1: Digi-Key; Supplier Part Number 1: 296-10273-5-ND; Supplier 2: Newark; Supplier Part Number 2: 76C7270; Supplier 3: Mouser; Supplier Part Number 3: 595-TLC320AD50CDW; Mounting Technology: Surface Mount; Code_JEDEC: MS-013-AE; ComponentLink1Description: Datasheet; ComponentLink1URL: http://www.ti.com/general/docs/lit/getliterature.tsp?genericPartNumber=TLC320AD50&fileType=pdf
footprint DW28_N (SOIC, 28-Leads, Body 17.9x7.5mm, Pitch 1.27mm, IPC Medium Density)
footprint DW28_L (SOIC, 28-Leads, Body 17.9x7.5mm, Pitch 1.27mm, IPC High Density)
footprint DW28_M (SOIC, 28-Leads, Body 17.9x7.5mm, Pitch 1.27mm, IPC Low Density)
pins: 1 REFP (out) "Voltage reference filter positive output. REFP is provided for low-pass filtering of the internal bandgap reference. The optimal ceramic capacitor value is 0.1 µF and should be connected between REFP and REFM. DC voltage at (See Datasheet)", 2 REFM (out) "Voltage reference filter output. REFM is provided for low-pass filtering of the internal bandgap reference. The optimal ceramic capacitor value is 0.1 µF and should be connected between REFM and REFP. DC voltage at REFM is 0 (See Datasheet)", 3 AUXP (in) "Noninverting input to auxiliary analog input. AUXP requires an external single-pole antialias filter with a low output impedance and should be tied to AVSS if not used.", 4 AUXM (in) "Inverting input to auxiliary analog input. AUXM requires an external single-pole antialias filter with a low output impedance and should be tied to AVSS if not used.", 5 INP (in) "Noninverting input to analog modulator. INP requires an external single-pole antialias filter with a low output impedance.", 6 INM (in) "Inverting input to analog modulator. INM requires an external single-pole antialias filter with a low output impedance.", 7 AVDD(PLL) (power) "Analog power supply for the internal PLL (5 V only)", 8 AVSS(PLL) (power) "Analog ground for the internal PLL", 9 DVDD (power) "Digital power supply (5 V or 3 V)", 10 DVSS (power) "Digital ground", 11 DOUT (hiz) "Data output. DOUT transmits the ADC output bits and register data, and is synchronized to SCLK. Data is sent out at the rising edge of SCLK when F\S\ is low. DOUT is at high impedance when F\S\ is not activated. When (See Datasheet)", 12 DIN (in) "Data input. DIN receives the DAC input data and register data from the external DSP (digital signal processor) and is synchronized to SCLK and F\S\. Data is latched at the falling edge of SCLK when F\S\ is low. DIN is at (See Datasheet)", 13 FLAG (out) "Output flag. During phone mode, FLAG contains the value set in control 2 register", 14 ALTDATA (in) "Alternate data. ALTDATA signals are routed to DOUT during secondary communication if the phone mode is enabled using control 2 register.", 15 ~{RESET} (in) "Reset. R\E\S\E\T\ initializes all of the internal registers to their default values. The serial port can be configured to the default state accordingly. See section 6 and paragraph 2.2.1 for more information.", 16 ~{PWRDWN} (in) "Power down. When P\W\R\D\W\N\ is pulled low, the device goes into a power-down mode, the serial interface is disabled. However, all the register values are sustained and the device resumes full power operation without (See Datasheet)", 17 FC (in) "Hardware secondary communication request. When FC is set to high, a secondary communication, followed by the primary communication, will occur to transfer data between this device and the external controller. FC is sampled (See Datasheet)", 18 MCLK (in) "Master clock. MCLK derives the internal clocks of the sigma-delta analog interface circuit.", 19 SCLK (io) "Shift clock. The SCLK signal clocks serial data in through DIN and out through DOUT during the frame-sync interval. When configured as an output (M/S high), SCLK is generated internally by multiplying the frame-sync signal (See Datasheet)", 20 ~{FS} (io) "Frame sync. F\S\ is an output when the device is configured as a master (M/S\ pin tied high). F\S\ is an input when the device is configured as a slave (M/S\ pin tied low). When configured as a slave, data will transfer when (See Datasheet)", 21 ~{FSD} (out) "Frame sync delayed output. The F\S\D\ (active-low) output synchronizes a slave device to the frame sync of the master device. F\S\D\ is applied to the slave F\S\ input and is the same duration as the master F\S\ signal but (See Datasheet)", 22 M/~{S} (in) "Master/slave select input. When M/S\ is high, the device is the master. When M/S\ is low, the device is a slave.", 23 OUTP (out) "Noninverting output of the DAC. The OUTP output can be loaded with 600 ohm. OUTP can also be used alone for single-ended operation.", 24 OUTM (out) "Inverting output of the DAC. The OUTM output can be loaded with 600 ohm. OUTM is functionally identical with and complementary to OUTP. OUTM can also be used alone for single-ended operation.", 25 AVDD (power) "Analog ADC power supply (5 V only)", 26 AVSS (power) "Analog ground", 27 MONOUT (hiz) "Monitor output. MONOUT allows for monitoring of the analog input and is a high-impedance output. The gain or mute is selected using control 1 register.", 28 FILT "Bandgap filter. FILT is provided for decoupling of the bandgap reference, and provides 3.2 V. The optimal capacitor value is 0.1 µF (ceramic). This voltage node should be loaded only with a high-impedance dc load."